# Altium schematic symbol library ME3116.SchLib: 1 symbol
Pins are listed as number, name and electrical type; pins without a type are passive.

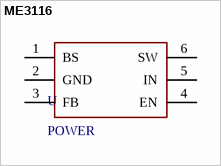
[diagram p0: symbol ME3116]

## ME3116
designator U, comment POWER
pins: 1 BS, 2 GND, 3 FB, 4 EN, 5 IN, 6 SW